# EAGLE library part PBS_SMD_X9 (library NA-2025)
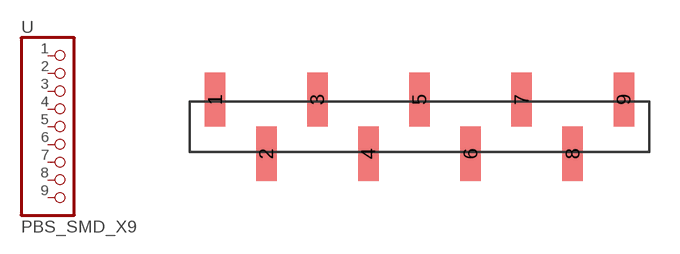
[diagram p49: symbol with the pads of PBS_SMD_X9; footprint PBS_SMD_X9]

Designator prefix -

## PBS_SMD_X9  [PBS_SMD_X9]
1  1  pas
2  2  pas
3  3  pas
4  4  pas
5  5  pas
6  6  pas
7  7  pas
8  8  pas
9  9  pas

## Footprint PBS_SMD_X9 (pad centres in mm)
smd 1.02 x 2.7: 1 -10.16,1.35; 2 -7.62,-1.35; 3 -5.08,1.35; 4 -2.54,-1.35; 5 0,1.35; 6 2.54,-1.35; 7 5.08,1.35; 8 7.62,-1.35; 9 10.16,1.35